# Altium footprint library Daxxn_Relays.PcbLib: 2 footprints
Each footprint in its own frame and in the unit in brackets; x right, y up, seen from the top. Pads: shape width x height; smd on the part's side, far side on the other; paste and mask are expansions set on the pad; w line width, h text height; cw(c..) or ccw(c..) is an arc to the next point about the centre after c.
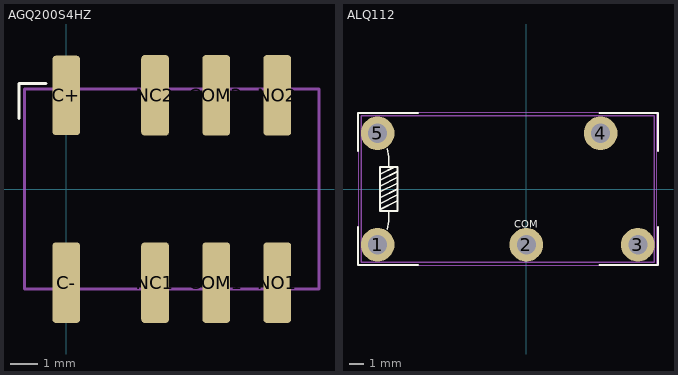
[diagram p0: the footprints below, top view; thin cyan lines are the x and y axes]

## AGQ200S4HZ [mm]
pads (8):
  rrect25% 1x2.86 smd: C+(0,3.37)
  rrect25% 1x2.9 smd: C-(0,-3.37) COM1(5.4,-3.37) COM2(5.4,3.37) NC1(3.2,-3.37) NC2(3.2,3.37) NO1(7.6,-3.37) NO2(7.6,3.37)
F.SilkS:
  lines w0.12: -1.7,2.54 -1.7,3.8 -0.74,3.8
F.Fab:
  lines w0.1: -1.5,-3.6 -1.5,3.6 9.1,3.6 9.1,-3.6 -1.5,-3.6
  text "'.Designator'" at -1.507,6.55 h1

## ALQ112 [mm]
pads (5):
  round 2.3 hole 1.3: 1(-10.16,-3.81) 2(0,-3.81) 3(7.62,-3.81) 4(5.08,3.81) 5(-10.16,3.81)
F.SilkS:
  lines w0.12: -11.5,-2.6 -11.5,-5.2 -7.4,-5.2 ; -11.5,2.6 -11.5,5.2 -7.4,5.2 ; -10,-1.4 -8.8,-0.8 ; -10,-1 -8.8,-0.4 ; -10,-0.6 -8.8,0 ; -10,-0.2 -8.8,0.4 ; -10,0.2 -8.8,0.8 ; -10,0.6 -8.8,1.2 ; -10,1 -9,1.5 ; -9.5,-2.75 -9.4,-2.2 -9.4,-1.5 ; -9.5,2.75 -9.4,2.2 -9.4,1.5 ; 5,-5.2 9,-5.2 9,-2.6 ; 5,5.2 9,5.2 9,2.6 ; -10,-1.5 -10,1.5 -8.8,1.5 -8.8,-1.5 -10,-1.5
  text "COM" at -0.813,-2.661 h0.5
F.CrtYd:
  lines w0.05: -11.47,-5.2 -11.47,5.2 8.93,5.2 8.93,-5.2 -11.47,-5.2
F.Fab:
  lines w0.1: -11.27,-5 -11.27,5 8.73,5 8.73,-5 -11.27,-5
  text "'.Designator'" at -4.047,-0.09 h1